# Altium schematic symbol library ul_CX5032GB08000H0HPQZ1.SchLib: 2 symbols
Pins are listed as number, name and electrical type; pins without a type are passive.

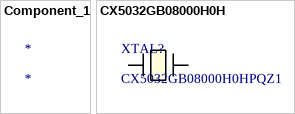
[diagram p0: symbols Component_1 to CX5032GB08000H0H]

## Component_1
designator *

## CX5032GB08000H0H
designator XTAL?, comment CX5032GB08000H0HPQZ1
No Description Available; Built_By: EMA_Matt; Vendor: AVX Corporation; SourceLibrary: AVX_2019-08-19; Manufacturer_Part_Number: CX5032GB08000H0HPQZ1; Copyright: Copyright (C) 2018 Accelerated Designs. All rights reserved; RefDes: RefDes; Type: DEV
footprint xtal2_CX5032GB_A
pins: 1, 2